# Altium schematic symbol library PVAZ172N.Schlib: 1 symbol
Pins are listed as number, name and electrical type; pins without a type are passive.

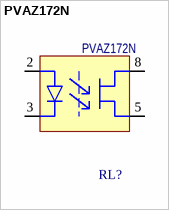
[diagram p0: symbol PVAZ172N]

## PVAZ172N
designator RL?
Power MOSFET Photovoltaic Relay; Потребление, Вт: 0,001; Назначение: Power MOSFET Photovoltaic Relay; ComponentLink1Description: DataSheet; ComponentLink1URL: http://www.irf.com/product-info/datasheets/data/pvaz172.pdf; Наименование: PVAZ172N
footprint DIP-8
pins: 2, 3, 5 Drain, 8 Drain